# Altium schematic symbol library MAX1968EUI+T.SchLib: 1 symbol
Pins are listed as number, name and electrical type; pins without a type are passive.

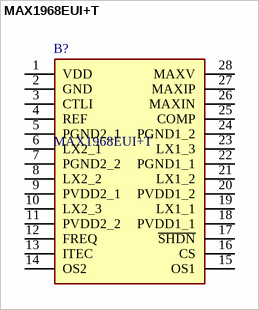
[diagram p0: symbol MAX1968EUI+T]

## MAX1968EUI+T
designator B?
Power Management Specialized - PMIC Power Drivers for Peltier TEC Modules; Manufacturer_Name: Analog Devices; Geometry.Height: 1.1mm; Mouser Part Number: 700-MAX1968EUIT; Mouser Price/Stock: https://www.mouser.co.uk/ProductDetail/Analog-Devices-Maxim-Integrated/MAX1968EUI%2bT?qs=Jw2w9zrI6w9F0RzVMjTGIw%3D%3D; Manufacturer_Part_Number: MAX1968EUI+T; Datasheet Link: https://datasheets.maximintegrated.com/en/ds/MAX1968-MAX1969.pdf
footprint SOP65P640X110-28N
pins: 1 VDD, 2 GND, 3 CTLI, 4 REF, 5 PGND2_1, 6 LX2_1, 7 PGND2_2, 8 LX2_2, 9 PVDD2_1, 10 LX2_3, 11 PVDD2_2, 12 FREQ, 13 ITEC, 14 OS2, 15 OS1, 16 CS, 17 ~{SHDN}, 18 PVDD1_1, 19 LX1_1, 20 PVDD1_2, 21 LX1_2, 22 PGND1_1, 23 LX1_3, 24 PGND1_2, 25 COMP, 26 MAXIN, 27 MAXIP, 28 MAXV